# EAGLE library part TMP141_BOB (library CEDT_JANUARY_2015_v6)
BOB for TMP141 Digital Out Temperature Sensor with Single-Wire SensorPathTM Bus Datasheet <http://www.ti.com/lit/ds/symlink/tmp141.pdf>
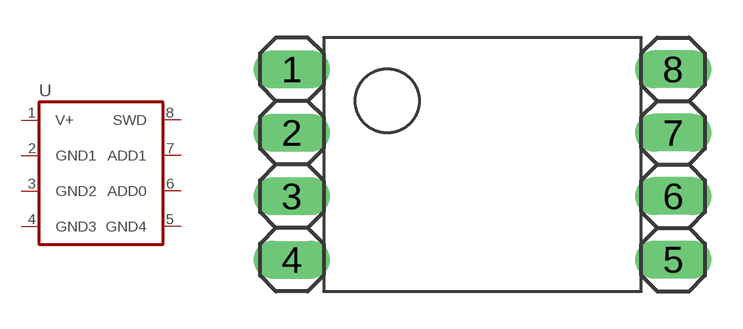
[diagram p71: symbol with the pads of BOB; footprint BOB]

Designator prefix -

## TMP141_BOB  [BOB]
1  V+  in
2  GND1  pwr
3  GND2  in
4  GND3  pwr
5  GND4  pwr
6  ADD0  in
7  ADD1  in
8  SWD  out

## Footprint BOB (pad centres in mm)
BOB for MSOP8 Package
drill 1.016 long: 1 -7.62,3.81; 2 -7.62,1.27; 3 -7.62,-1.27; 4 -7.62,-3.81; 5 7.62,-3.81; 6 7.62,-1.27; 7 7.62,1.27; 8 7.62,3.81